# EAGLE library part 7-PIN_2MM-* (library RoboJackets-Connectors)
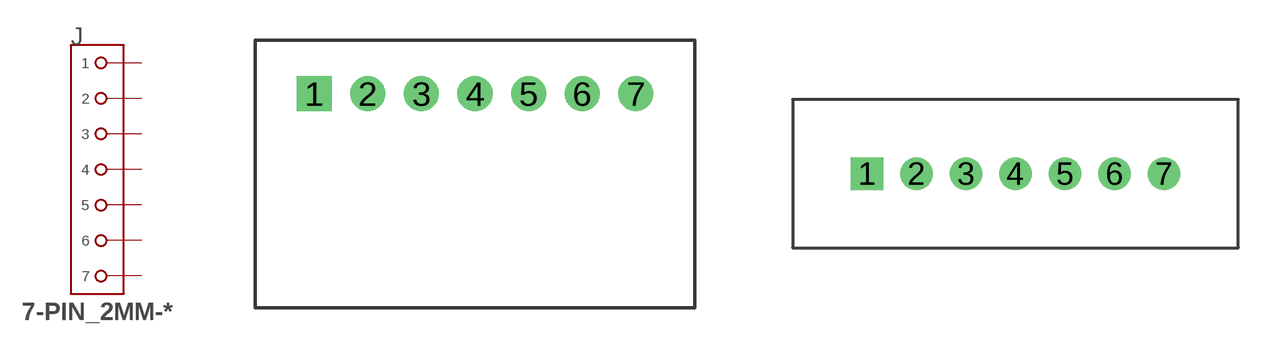
[diagram p2: symbol with the pads of 2MM-7-H; footprints 2MM-7-H, 2MM-7-V]

Designator prefix J

## 7-PIN_2MM-H (PINS: 7; PIN_PITCH: 2.0 mm)  [2MM-7-H]
1  1  pas
2  2  pas
3  3  pas
4  4  pas
5  5  pas
6  6  pas
7  7  pas

## 7-PIN_2MM-V (PINS: 7; PIN_PITCH: 2.0 mm)  [2MM-7-V]
Pads as for 2MM-7-H

## Footprint 2MM-7-H (pad centres in mm)
drill 0.8 square: 1 -6,0
drill 0.8: 2 -4,0; 3 -2,0; 4 0,0; 5 2,0; 6 4,0; 7 6,0

## Footprint 2MM-7-V (pad centres in mm)
drill 0.8 square: 1 -6,0
drill 0.8: 2 -4,0; 3 -2,0; 4 0,0; 5 2,0; 6 4,0; 7 6,0